# Altium integrated library 底板.IntLib: 16 symbols
Pins are listed as number, name and electrical type; pins without a type are passive.

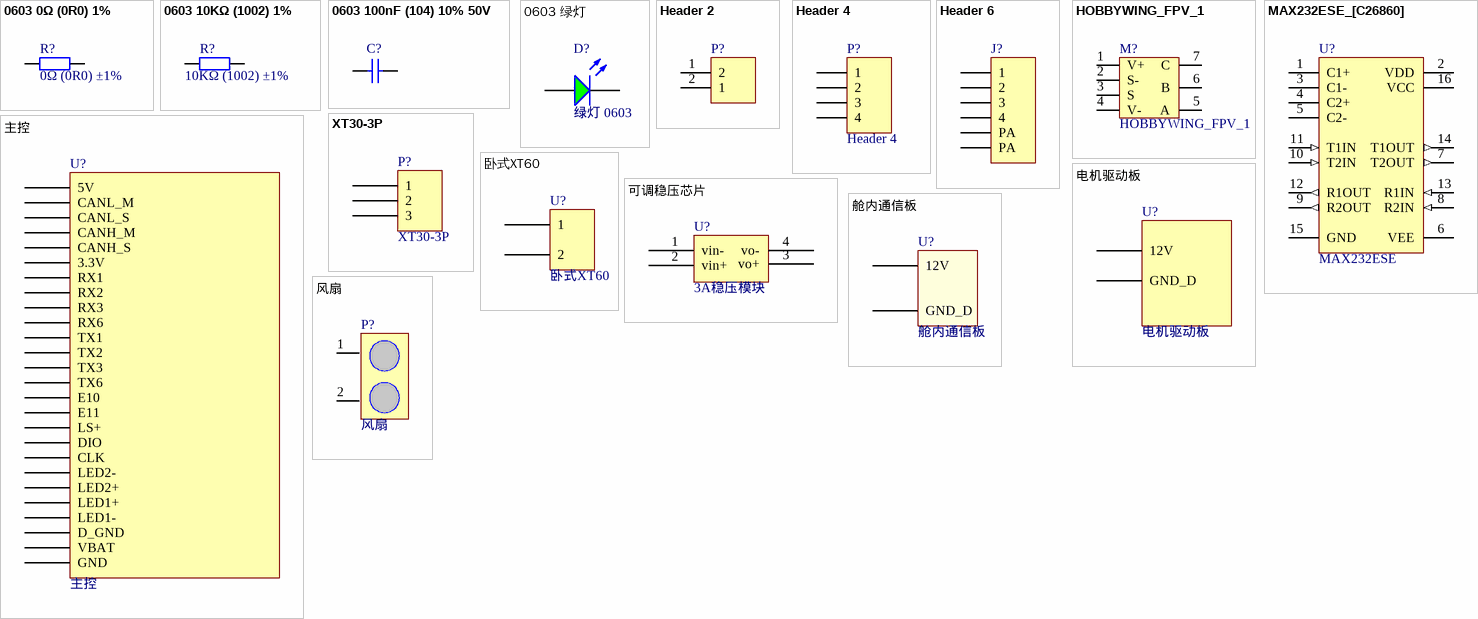
[diagram p0: symbols 0603 0Ω (0R0) 1% to 风扇]

## 0603 0Ω (0R0) 1%
designator R?, comment 0Ω (0R0) ±1%
贴片电阻; ComponentLink1Description: 供应商链接; ComponentLink1URL: http://www.szlcsc.com/product/details_21903.html; Package: 0603; Supplier: LC; SuppliersPartNumber: C21189
footprint 0603_R
pins: 1, 2

## 0603 10KΩ (1002) 1%
designator R?, comment 10KΩ (1002) ±1%
贴片电阻; ComponentLink1Description: 供应商链接; ComponentLink1URL: http://www.szlcsc.com/product/details_26547.html; Package: 0603; Supplier: LC; SuppliersPartNumber: C25804
footprint 0603_R
pins: 1, 2

## 0603 100nF (104) 10% 50V
designator C?, comment 100nF (104) 10% 50V  (value not drawn)
贴片电容; ComponentLink1Description: 供应商链接; ComponentLink1URL: http://www.szlcsc.com/product/details_15331.html; Package: 0603; Supplier: LC; SuppliersPartNumber: C14663
footprint 0603_C
pins: 1, 2

## 0603 绿灯
designator D?, comment 绿灯 0603
发光二极管; ComponentLink1Description: 供应商链接; ComponentLink1URL: http://www.szlcsc.com/product/details_73152.html; Package: 0603; Supplier: LC; SuppliersPartNumber: C72043
footprint 0603_LED_S1
pins: A, K

## Header 2
designator P?  (value not drawn)
Header, 2-Pin; LatestRevisionDate: 17-Jul-2002; LatestRevisionNote: Re-released for DXP Platform.; Publisher: Altium Limited
footprint 2510KF-2
signal-integrity model Connector
footprint molex-2
footprint XT30 - 2
pins: 1 2, 2 1

## Header 4
designator P?
Header, 4-Pin; LatestRevisionDate: 17-Jul-2002; LatestRevisionNote: Re-released for DXP Platform.; Publisher: Altium Limited
footprint 串口防插反
signal-integrity model Connector
footprint JST SH 4 Pin Side Entry
footprint 串口防插反
footprint JST SH 4 Pin Side Entry
footprint Molex-4
pins: 1, 2, 3, 4

## Header 6
designator J?  (value not drawn)
Header, 6-Pin; LatestRevisionDate: 17-Jul-2002; LatestRevisionNote: Re-released for DXP Platform.; Publisher: Altium Limited
footprint HDR1X6 (Connector; Header; 6 Position)
signal-integrity model Connector
footprint Modolex_6P
pins: 1, 2, 3, 4, 5 PA, 6 PA

## HOBBYWING_FPV_1
designator M?
footprint HOBBYWING_WING20A/30A
pins: 1 V+, 2 S-, 3 S, 4 V-, 5 A, 6 B, 7 C

## MAX232ESE_[C26860]
designator U?, comment MAX232ESE
RS232; ComponentLink1Description: 供应商链接; ComponentLink1URL: http://www.szlcsc.com/product/details_27608.html; Package: SOIC-16_150mil; Supplier: LC; SuppliersPartNumber: C26860
footprint SOIC-16_150mil
pins: 1 C1+, 2 VDD (power), 3 C1-, 4 C2+, 5 C2-, 6 VEE (power), 7 T2OUT (out), 8 R2IN (in), 9 R2OUT (out), 10 T2IN (in), 11 T1IN (in), 12 R1OUT (out), 13 R1IN (in), 14 T1OUT (out), 15 GND (power), 16 VCC (power)

## XT30-3P
designator P?
footprint XT30-3P
pins: 1, 2, 3

## 主控
designator U?
footprint 主控
pins: 1 5V, 2 CANL_M, 3 CANL_S, 4 CANH_M, 5 CANH_S, 6 3.3V, 7 RX1, 8 RX2, 9 RX3, 10 RX6, 11 TX1, 12 TX2, 13 TX3, 14 TX6, 15 E10, 16 E11, 17 LS+, 18 DIO, 19 CLK, 20 LED2-, 21 LED2+, 22 LED1+, 23 LED1-, 24 D_GND, 25 VBAT, 26 GND

## 卧式XT60
designator U?
footprint 卧式XT60
pins: 1, 2

## 可调稳压芯片
designator U?, comment 3A稳压模块
footprint 稳压模块
pins: 1 vin-, 2 vin+, 3 vo+, 4 vo-

## 电机驱动板
designator U?
footprint 电机驱动板
pins: 1 12V, 2 GND_D

## 舱内通信板
designator U?
footprint 舱内通信板
pins: 1 12V, 2 GND_D

## 风扇
designator P?
footprint 风扇接口
pins: 1, 2